# Altium schematic symbol library Assembly_components.SchLib: 23 symbols
Pins are listed as number, name and electrical type; pins without a type are passive.

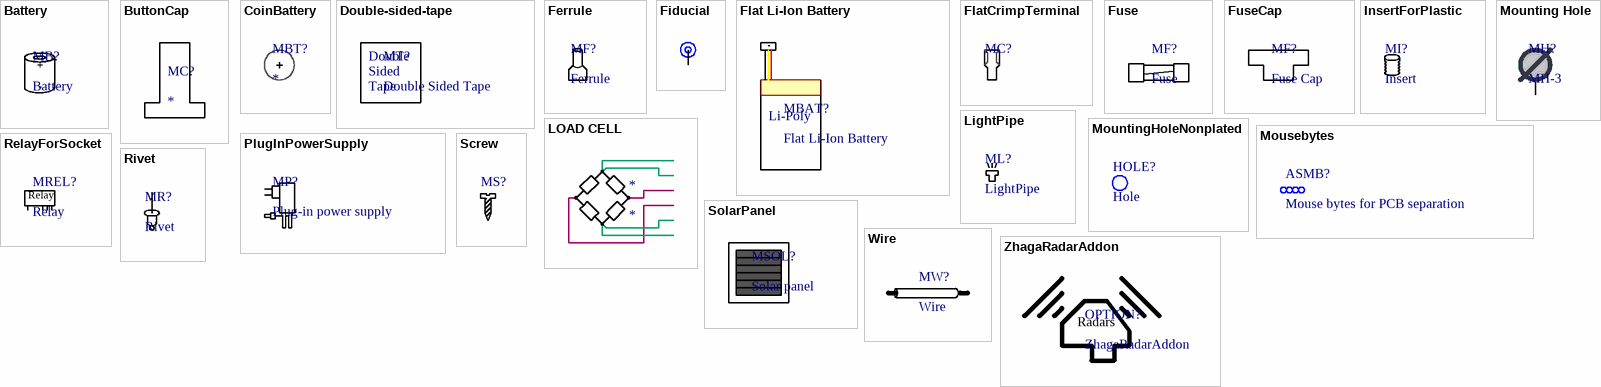
[diagram p0: symbols Battery to ZhagaRadarAddon]

## Battery
designator MB?  (mechanical)
Manufacturer: *; Part Number: *; Price 1: *; Price 100: *; Price 1000: *
text: +; -

## ButtonCap
designator MC?  (mechanical)
Button Cap; Manufacturer: *; Part Number: *; Price 1: *; Price 100: *; Price 1000: *

## CoinBattery
designator MBT?  (mechanical)
Coin cell battery CR2032; Manufacturer: ENERGIZER; Part Number: *; Price 1: *; Price 100: *; Price 1000: *

## Double-sided-tape
designator MT?, comment Double Sided Tape
Manufacturer: Tesa; Part Number: TESA-4957-12
footprint DoubleSidedTape12x10x1 (Piece of double sided tape for Plurzulis)
text: Double; Sided; Tape

## Ferrule
designator MF?  (mechanical)
Manufacturer: *; Part Number: *; Price 1: *; Price 100: *; Price 1000: *

## Fiducial
designator FIDUCIAL?  (value not drawn)  (no BOM)
footprint Fiducial (Fiducial, 1mm metal, 2mm solder mask)
pins: 1 F

## Flat Li-Ion Battery
designator MBAT?  (mechanical)
text: Li-Poly

## FlatCrimpTerminal
designator MC?, comment Flat crimp terminal, female, 6.3x0.8mm  (value not drawn)  (mechanical)
Flat crimp terminal, female, 6.3x0.8mm, wire 0.25..1.5mm2; Manufacturer: BM GROUP; Part Number: BM 00190; Price 1: 0.07; Price 100: 0.07; Price 1000: 0.05

## Fuse
designator MF?

## FuseCap
designator MF?, comment Fuse Cap  (mechanical)

## InsertForPlastic
designator MI?, comment Insert  (mechanical)
Manufacturer: *; Part Number: *; Price 1: *; Price 100: *; Price 1000: *

## LightPipe
designator ML?  (mechanical)

## LOAD CELL
designator *

## Mounting Hole
designator MH?, comment MH-3
footprint MH R 1x2
footprint MH R 1.2x2
footprint MH R 1.5x2.5
footprint MH R 2x3.5
footprint MH R 2.5x4
footprint MH R 3x4.5
footprint MH R 3.5x5.5
footprint MH R 4x6.5
footprint MH R 5x8
pins: 1

## MountingHoleNonplated
designator HOLE?, comment Hole  (no BOM)
footprint Hole_NP_4mm

## Mousebytes
designator ASMB?, comment Mouse bytes for PCB separation  (no BOM)
footprint Mousebytes_4_0.5_0.8 (4x0.5mm, p0.8mm)

## PlugInPowerSupply
designator MP?, comment Plug-in power supply
Manufacturer: *; Part Number: *; Price 1: *; Price 100: *; Price 1000: *

## RelayForSocket
designator MREL?, comment Relay
Manufacturer: *; Part Number: *; Price 1: *; Price 100: *; Price 1000: *

## Rivet
designator MR?  (mechanical)
Manufacturer: *; Part Number: *; Price 1: *; Price 100: *; Price 1000: *

## Screw
designator MS?  (mechanical)
Screw; Manufacturer: *; Part Number: *; Price 1: *; Price 100: *; Price 1000: *

## SolarPanel
designator MSOL?, comment Solar panel  (mechanical)
Price 1: *; Price 100: *; Price 1000: *; Manufacturer: *; Part Number: *

## Wire
designator MW?  (mechanical)
Manufacturer: *; Part Number: *; Price 1: *; Price 100: *; Price 1000: *

## ZhagaRadarAddon
designator OPTION?
footprint ZhagaRadarAddon
text: Radars